# Altium schematic symbol library hub_card_schem_lib.SchLib: 5 symbols
Pins are listed as number, name and electrical type; pins without a type are passive.

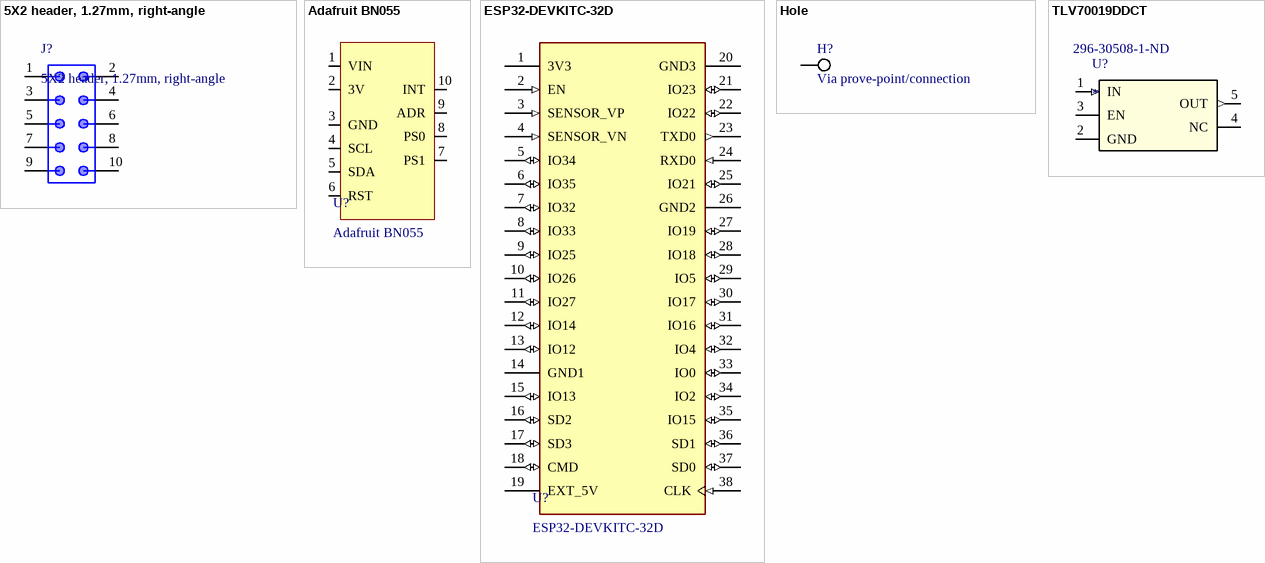
[diagram p0: symbols 5X2 header, 1.27mm, right-angle to TLV70019DDCT]

## 5X2 header, 1.27mm, right-angle
designator J?
footprint 5X2 header, 1.27mm, right-angle
pins: 1, 2, 3, 4, 5, 6, 7, 8, 9, 10

## Adafruit BN055
designator U?
footprint Adafruit BN055
pins: 1 VIN, 2 3V, 3 GND, 4 SCL, 5 SDA, 6 RST, 7 PS1, 8 PS0, 9 ADR, 10 INT

## ESP32-DEVKITC-32D
designator U?
ESP32-DEVKITC-32D module.
footprint ESP32
pins: 1 3V3 (power), 2 EN (in), 3 SENSOR_VP (in), 4 SENSOR_VN (in), 5 IO34 (io), 6 IO35 (io), 7 IO32 (io), 8 IO33 (io), 9 IO25 (io), 10 IO26 (io), 11 IO27 (io), 12 IO14 (io), 13 IO12 (io), 14 GND1 (power), 15 IO13 (io), 16 SD2 (io), 17 SD3 (io), 18 CMD (io), 19 EXT_5V (power), 20 GND3 (power), 21 IO23 (io), 22 IO22 (io), 23 TXD0 (out), 24 RXD0 (in), 25 IO21 (io), 26 GND2 (power), 27 IO19 (io), 28 IO18 (io), 29 IO5 (io), 30 IO17 (io), 31 IO16 (io), 32 IO4 (io), 33 IO0 (io), 34 IO2 (io), 35 IO15 (io), 36 SD1 (io), 37 SD0 (io), 38 CLK (in)

## Hole
designator H?, comment Via prove-point/connection
footprint Hole
pins: 1

## TLV70019DDCT
designator U?  Supplier Part Number 1: 296-30508-1-ND
ComponentLink1Description: New link; ComponentLink1URL: https://no.farnell.com/texas-instruments/tlv70019ddct/ldo-reg-0-175vdo-0-2a-1-9v-5sot23/dp/3007766RL?st=regulator; Supplier 1: Digi-Key
footprint TLV70019DDCT
pins: 1 IN (in), 2 GND (power), 3 EN, 4 NC, 5 OUT (out)